# Altium schematic symbol library DecoLED.SchLib: 15 symbols
Pins are listed as number, name and electrical type; pins without a type are passive.

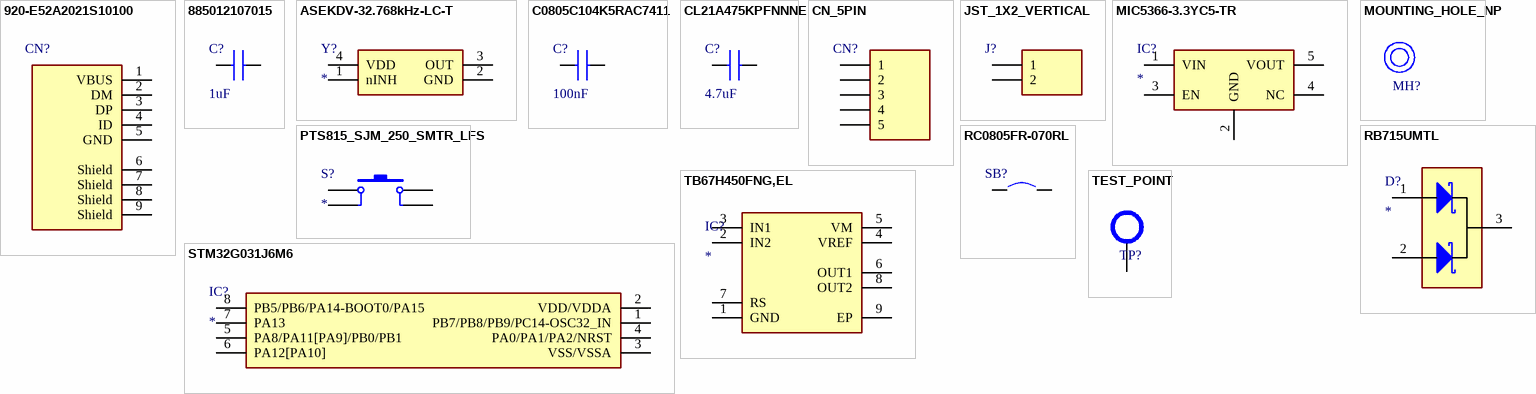
[diagram p0: symbols 920-E52A2021S10100 to TEST_POINT]

## 920-E52A2021S10100
designator CN?  (value not drawn)
USB connector; Manufacturer_Name: Jing Extension of the Electronic Co.; Datasheet Link: http://toshiba.semicon-storage.com/info/docget.jsp?did=65346&prodName=TB67H450FNG; Height: 1.9mm; Manufacturer_Part_Number: https://datasheet.lcsc.com/lcsc/2103051832_Jing-Extension-of-the-Electronic-Co--920-E52A2021S10100_C10418.pdf; Mouser Part Number: 920-E52A2021S10100; Mouser Price/Stock: https://www.mouser.co.uk/ProductDetail/Toshiba/TB67H450FNGEL?qs=h6V4JsTaLXeReNg2bp0jug%3D%3D; Arrow Part Number: TB67H450FNG,EL; Arrow Price/Stock: https://www.arrow.com/en/products/tb67h450fngel/toshiba?region=nac
footprint USB307530A
pins: 1 VBUS, 2 DM, 3 DP, 4 ID, 5 GND, 6 Shield, 7 Shield, 8 Shield, 9 Shield

## 885012107015
designator C?  value 1uF  (hidden comment: *)
Capacitor; Manufacturer_Name: Wurth Elektronik; Manufacturer_Part_Number: 885012107015; Datasheet Link: https://katalog.we-online.com/pbs/datasheet/885012107015.pdf; Height: 1.35mm; Mouser Part Number: 710-885012107015; Mouser Price/Stock: https://www.mouser.co.uk/ProductDetail/Wurth-Elektronik/885012107015?qs=0KOYDY2FL2%252BNQREZP%252BtVoQ%3D%3D
footprint CAPC2012X135N
pins: 1, 2

## ASEKDV-32.768kHz-LC-T
designator Y?
Crystal or Oscillator; Manufacturer_Name: ABRACON; Manufacturer_Part_Number: ASEKDV-32.768kHz-LC-T; Value: 32.768kHz; Datasheet Link: https://www.mouser.fr/datasheet/2/3/ABRC_S_A0012625913_1-2519507.pdf; Height: 1.2mm; Mouser Part Number: 815-ASEKDV32768KHLCT
footprint ASEKDV-32.768kHz-LC-T
pins: 1 nINH, 2 GND, 3 OUT, 4 VDD

## C0805C104K5RAC7411
designator C?  value 100nF  (hidden comment: *)
Capacitor; Manufacturer_Name: Kemet; Manufacturer_Part_Number: C0805C104K5RAC7411; Datasheet Link: https://www.mouser.com/datasheet/2/212/KEM_C1002_X7R_SMD-1102033.pdf; Height: 0.88mm; Mouser Part Number: 80-C0805C104K5RACLR; Mouser Price/Stock: https://www.mouser.co.uk/ProductDetail/KEMET/C0805C104K5RAC7411?qs=jbRM9o5BbzPcVXF0wW9AYg%3D%3D; Arrow Part Number: C0805C104K5RAC7411; Arrow Price/Stock: https://www.arrow.com/en/products/c0805c104k5rac7411/kemet-corporation
footprint CAPC2012X94N
pins: 1, 2

## CL21A475KPFNNNE
designator C?  value 4.7uF  (hidden comment: *)
Capacitor; Manufacturer_Name: Wurth Elektronik; Manufacturer_Part_Number: CL21A475KPFNNNE; Datasheet Link: https://www.mouser.fr/datasheet/2/585/MLCC-1837944.pdf; Height: 1.35mm; Mouser Part Number: 187-CL21A475KPFNNNE; Mouser Price/Stock: https://www.mouser.co.uk/ProductDetail/Wurth-Elektronik/885012107015?qs=0KOYDY2FL2%252BNQREZP%252BtVoQ%3D%3D
footprint CAPC2012X135N
pins: 1, 2

## CN_5PIN
designator CN?  (value not drawn)
Connector
footprint CN_5PIN (Connector; Edge; 22 Position)
pins: 1, 2, 3, 4, 5

## JST_1X2_VERTICAL
designator J?  (value not drawn)
Connector; Manufacturer_Name: JST (JAPAN SOLDERLESS TERMINALS); Manufacturer_Part_Number: B2B-PH-K-S(LF)(SN); Datasheet Link: https://datasheet.lcsc.com/szlcsc/JST-Sales-America-B2B-PH-K-S-LF-SN_C131337.pdf; Height: 6mm; Arrow Part Number: B2B-PH-K-S(LF)(SN); Arrow Price/Stock: https://www.arrow.com/en/products/b2b-ph-k-s-lf-sn/jst-manufacturing
footprint JST_1x2_VERTICAL
pins: 1, 2

## MIC5366-3.3YC5-TR
designator IC?
LDO; Manufacturer_Name: Microchip; Manufacturer_Part_Number: MIC5366-3.3YC5-TR; Value: 3.3V/150mA; Datasheet Link: https://www.mouser.fr/datasheet/2/268/MIC5365_6_High_Performance_Single_150mA_LDO_DS2000-2826882.pdf; Height: 1.1mm; Mouser Part Number: 998-MIC5366-3.3YC5TR; Mouser Price/Stock: https://www.mouser.co.uk/ProductDetail/Microchip-Technology-Micrel/MIC5365-33YC5-TR?qs=U6T8BxXiZAXvJj%252BPZ%252B301w%3D%3D; Arrow Part Number: MIC5365-3.3YC5-TR; Arrow Price/Stock: https://www.arrow.com/en/products/mic5365-3.3yc5-tr/microchip-technology?region=nac
footprint SOT65P210X110-5N
pins: 1 VIN (power), 2 GND (power), 3 EN, 4 NC, 5 VOUT

## MOUNTING_HOLE_NP
designator MH?  (value not drawn)  (no BOM)
Mounting hole
footprint MOUNTING_HOLE_NP

## PTS815_SJM_250_SMTR_LFS
designator S?
Switch; Manufacturer_Name: C & K COMPONENTS; Manufacturer_Part_Number: PTS815 SJM 250 SMTR LFS; Datasheet Link: https://componentsearchengine.com/Datasheets/1/PTS815 SJM 250 SMTR LFS.pdf; Height: 2.7mm; Mouser Part Number: 611-PTS815SJM250SMTR; Mouser Price/Stock: https://www.mouser.co.uk/ProductDetail/CK/PTS815-SJM-250-SMTR-LFS?qs=ahcBuItHZ3xKWmfV%2F2E6bA%3D%3D; Arrow Part Number: PTS815 SJM 250 SMTR LFS; Arrow Price/Stock: https://www.arrow.com/en/products/pts815-sjm-250-smtr-lfs/ck
footprint EVP-BT3G4A000
pins: 1, 2, 3, 4

## RB715UMTL
designator D?
Schottky Diode; Manufacturer_Name: ROHM Semiconductor; Manufacturer_Part_Number: RB715UMTL; Datasheet Link: http://uk.rs-online.com/web/p/products/1835297; Height: 1mm; Mouser Part Number: 755-RB715UMTL; Mouser Price/Stock: https://www.mouser.co.uk/ProductDetail/ROHM-Semiconductor/RB715UMTL?qs=HXFqYaX1Q2wTXMfu8QxCQg%3D%3D
footprint DAN217UMTL
pins: 1 K_1, 2 K_2, 3 COM_A

## RC0805FR-070RL
designator SB?  (value not drawn)
Jumper (0 ohm); Manufacturer_Name: YAGEO (PHYCOMP); Manufacturer_Part_Number: RC0805FR-070RL; Datasheet Link: https://datasheet.datasheetarchive.com/originals/distributors/Datasheets_SAMA/902f9e387b938f871d31120f5fc1d65e.pdf; Height: 0.6mm; Mouser Part Number: 603-RC0805FR-070RL; Mouser Price/Stock: https://www.mouser.co.uk/ProductDetail/YAGEO/RC0805FR-070RL?qs=fRxXYNj8ftF6kXqh1XbZJQ%3D%3D
footprint RESC2012X60N
pins: 1, 2

## STM32G031J6M6
designator IC?
Integrated Circuit; Manufacturer_Name: STMicroelectronics; Manufacturer_Part_Number: STM32G031J6M6; Datasheet Link: https://www.mouser.fr/datasheet/2/389/dm00613879-1799607.pdf; Height: 1.75mm; Mouser Part Number: 511-STM32G031J6M6
footprint SOIC127P600X175-8N
pins: 1 PB7/PB8/PB9/PC14-OSC32_IN, 2 VDD/VDDA, 3 VSS/VSSA, 4 PA0/PA1/PA2/NRST, 5 PA8/PA11[PA9]/PB0/PB1, 6 PA12[PA10], 7 PA13, 8 PB5/PB6/PA14-BOOT0/PA15

## TB67H450FNG,EL
designator IC?
Integrated Circuit; Manufacturer_Name: Toshiba; Manufacturer_Part_Number: TB67H450FNG,EL; Datasheet Link: http://toshiba.semicon-storage.com/info/docget.jsp?did=65346&prodName=TB67H450FNG; Height: 1.75mm; Mouser Part Number: 757-TB67H450FNGEL; Mouser Price/Stock: https://www.mouser.co.uk/ProductDetail/Toshiba/TB67H450FNGEL?qs=h6V4JsTaLXeReNg2bp0jug%3D%3D; Arrow Part Number: TB67H450FNG,EL; Arrow Price/Stock: https://www.arrow.com/en/products/tb67h450fngel/toshiba?region=nac
footprint SOIC127P600X175-9N
pins: 1 GND, 2 IN2, 3 IN1, 4 VREF, 5 VM, 6 OUT1, 7 RS, 8 OUT2, 9 EP

## TEST_POINT
designator TP?  (value not drawn)  (no BOM)
Test point
footprint TEST_POINT (Test point)
pins: TP